# EAGLE library part 615008160321 (library 615008185221_Eagle_WR-MJ_rev20b)
WR-MJ Modular Jack THT Vertical Plastic 8P8C MATERIAL PROPERTIES Insulator Material PA9T Insulator Flammability Rating UL94 V-0 Insulator Color Black Contact Material Copper Alloy Contact Plating 6u' on contact area Contact Type Stamped GENERAL INFORMATION Operating Temperature -40 up to +85 °C ELECTRICAL PROPERTIES Working Voltage 125 V (AC) Withstanding Voltage 1000 V (AC) Contact Resistance 35 mΩ RISO 1000 MΩ PACKAGING PROPERTIES Packaging Tray <https://katalog.we-online.com/media/images/v2/o161619v209%20Family_WR-MJTH_615008160321.jpg> Details see: https://katalog.we-online.com/en/em/MJ_THT_VERTICAL_PLASTIC_8P8C Created by Ella Wu 2019-11-05 2019(C) Wurth Elektronik
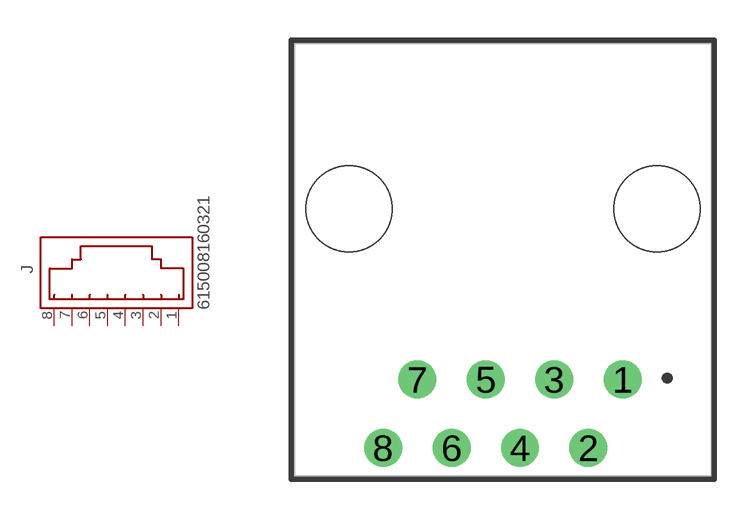
[diagram p30: symbol with the pads of 615008160321; footprint 615008160321]

Designator prefix J

## 615008160321 (DATASHEET-URL: https://www.we-online.com/catalog/datasheet/615008160321.pdf; MOUNT: THT; PART-NUMBER: 615008160321; TYPE: Vertical; VALUE: 615008160321; XPXC: 8P8C)  [615008160321]
1  1  pas
2  2  pas
3  3  pas
4  4  pas
5  5  pas
6  6  pas
7  7  pas
8  8  pas

## Footprint 615008160321 (pad centres in mm)
WR-MJ Modular Jack THT Vertical Plastic 8P8C
drill 0.9: 1 4.445,-4.45; 2 3.175,-6.99; 3 1.905,-4.45; 4 0.635,-6.99; 5 -0.635,-4.45; 6 -1.905,-6.99; 7 -3.175,-4.45; 8 -4.445,-6.99
hole 3.2 at 5.715,1.9
hole 3.2 at -5.715,1.9